# EAGLE library part ETHERNET-CTRL-W5500 (library FlashPCB_ICs)
ETHERNET-CTRL-W5500 - Hardwired TCP/IP embedded Ethernet controller that provides easier Internet connection to embedded systems Technical Specifications: Protocols : TCP, UDP, ICMP, IPv4, ARP, IGMP, PPPoE 32Kbytes Memory for TX/RX Buffers Component Search: W5500 <https://www.flashpcb.com/components> Datasheet: W5500 Datasheet <https://docs.wiznet.io/img/products/w5500/w5500_ds_v109e.pdf>
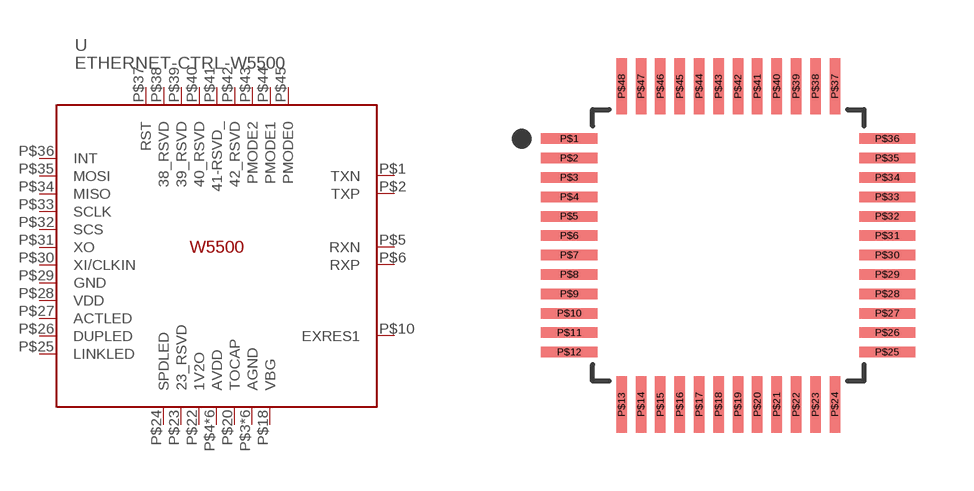
[diagram p46: symbol with the pads of 48-LQFP(7X7); footprint 48-LQFP(7X7)]

Designator prefix U

## ETHERNET-CTRL-W550048-LQFP  [48-LQFP(7X7)]
P$1  TXN
P$2  TXP
P$3  AGND
P$4  AVDD
P$5  RXN
P$6  RXP
P$8  AVDD
P$9  AGND
P$10  EXRES1
P$11  AVDD
P$14  AGND
P$15  AVDD
P$16  AGND
P$17  AVDD
P$18  VBG
P$19  AGND
P$20  TOCAP
P$21  AVDD
P$22  1V2O
P$23  23_RSVD
P$24  SPDLED
P$25  LINKLED
P$26  DUPLED
P$27  ACTLED
P$28  VDD
P$29  GND
P$30  XI/CLKIN
P$31  XO
P$32  SCS
P$33  SCLK
P$34  MISO
P$35  MOSI
P$36  INT
P$37  RST
P$38  38_RSVD
P$39  39_RSVD
P$40  40_RSVD
P$41  41-RSVD_
P$42  42_RSVD
P$43  PMODE2
P$44  PMODE1
P$45  PMODE0
P$48  AGND

## Footprint 48-LQFP(7X7) (pad centres in mm)
smd 1.45 x 0.27: P$1 -4.1,2.75; P$2 -4.1,2.25; P$3 -4.1,1.75; P$4 -4.1,1.25; P$5 -4.1,0.75; P$6 -4.1,0.25; P$7 -4.1,-0.25; P$8 -4.1,-0.75; P$9 -4.1,-1.25; P$10 -4.1,-1.75; P$11 -4.1,-2.25; P$12 -4.1,-2.75; P$25 4.1,-2.75; P$26 4.1,-2.25; P$27 4.1,-1.75; P$28 4.1,-1.25; P$29 4.1,-0.75; P$30 4.1,-0.25; P$31 4.1,0.25; P$32 4.1,0.75; P$33 4.1,1.25; P$34 4.1,1.75; P$35 4.1,2.25; P$36 4.1,2.75
smd 0.27 x 1.45: P$13 -2.75,-4.1; P$14 -2.25,-4.1; P$15 -1.75,-4.1; P$16 -1.25,-4.1; P$17 -0.75,-4.1; P$18 -0.25,-4.1; P$19 0.25,-4.1; P$20 0.75,-4.1; P$21 1.25,-4.1; P$22 1.75,-4.1; P$23 2.25,-4.1; P$24 2.75,-4.1; P$37 2.75,4.1; P$38 2.25,4.1; P$39 1.75,4.1; P$40 1.25,4.1; P$41 0.75,4.1; P$42 0.25,4.1; P$43 -0.25,4.1; P$44 -0.75,4.1; P$45 -1.25,4.1; P$46 -1.75,4.1; P$47 -2.25,4.1; P$48 -2.75,4.1